# EAGLE library part MICRO_BCU_8_2.54 (library MicroBCU_PCB)
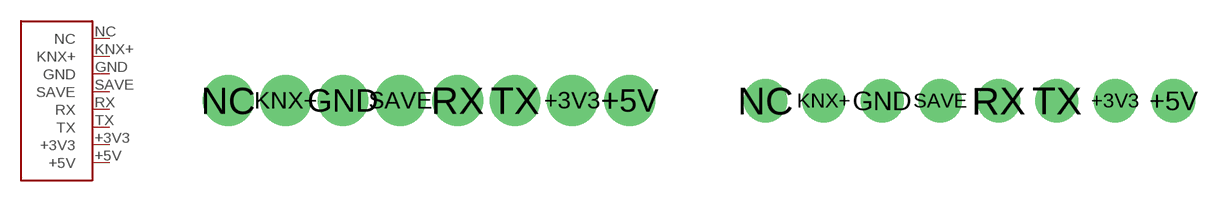
[diagram p2: symbol with the pads of MICRO_BCU_8_2.54_D1.4_DOCU; footprints MICRO_BCU_8_2.54_D1.4_DOCU, MICRO_BCU_8_2.54_DOCU]

Designator prefix -

## MICRO_BCU_8_2.54DOCU_D1.4  [MICRO_BCU_8_2.54_D1.4_DOCU]
+3V3  +3V3
+5V  +5V
GND  GND
KNX+  KNX+
NC  NC
RX  RX
SAVE  SAVE
TX  TX

## MICRO_BCU_8_2.54DOCU  [MICRO_BCU_8_2.54_DOCU]
Pads as for MICRO_BCU_8_2.54_D1.4_DOCU

## MICRO_BCU_8_2.54PCB  [MICRO_BCU_8_2.54_PCB]
Pads as for MICRO_BCU_8_2.54_D1.4_DOCU

## MICRO_BCU_8_2.54HEADER  [MICRO_BCU_8_2.54_PINS]
Pads as for MICRO_BCU_8_2.54_D1.4_DOCU

## Footprint MICRO_BCU_8_2.54_D1.4_DOCU (pad centres in mm)
drill 1.5 pad 1.93: +3V3 6.35,-7.62; +5V 8.89,-7.62; GND -3.81,-7.62; KNX+ -6.35,-7.62; NC -8.89,-7.62; RX 1.27,-7.62; SAVE -1.27,-7.62; TX 3.81,-7.62

## Footprint MICRO_BCU_8_2.54_DOCU (pad centres in mm)
drill 1.016 pad 1.88: +3V3 6.35,-7.62; +5V 8.89,-7.62; GND -3.81,-7.62; KNX+ -6.35,-7.62; NC -8.89,-7.62; RX 1.27,-7.62; SAVE -1.27,-7.62; TX 3.81,-7.62

## Footprint MICRO_BCU_8_2.54_PCB (pad centres in mm)
drill 1.016 pad 1.88: +3V3 6.35,-7.62; +5V 8.89,-7.62; GND -3.81,-7.62; KNX+ -6.35,-7.62; NC -8.89,-7.62; RX 1.27,-7.62; SAVE -1.27,-7.62; TX 3.81,-7.62

## Footprint MICRO_BCU_8_2.54_PINS (pad centres in mm)
drill 1.016 pad 1.88: +3V3 15.24,0; +5V 17.78,0; GND 5.08,0; KNX+ 2.54,0; NC 0,0; RX 10.16,0; SAVE 7.62,0; TX 12.7,0